# EAGLE library part A5975D (library PWM Stabilizators)
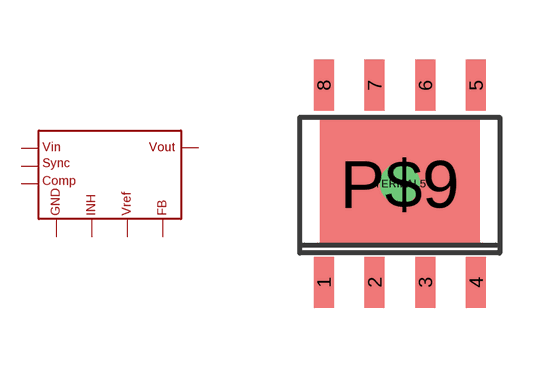
[diagram p1: symbol with the pads of HSOP8; footprint HSOP8]

Designator prefix -

## A5975D  [HSOP8]
1  1
2  2
3  3
4  4
5  5
6  6
7  7
8  8
P$9  7
TERMAL5  7

## Footprint HSOP8 (pad centres in mm)
smd 0.5 x 1.27: 1 0,-4.93; 2 1.27,-4.93; 3 2.54,-4.93; 4 3.81,-4.93; 5 3.81,0; 6 2.54,0; 7 1.27,0; 8 0,0
smd 4 x 3.2: P$9 1.905,-2.465
drill 0.5: TERMAL5 1.905,-2.465